# Altium integrated library TI Power Management Step-Down Regulator.IntLib: 531 symbols (part 8 of 32)
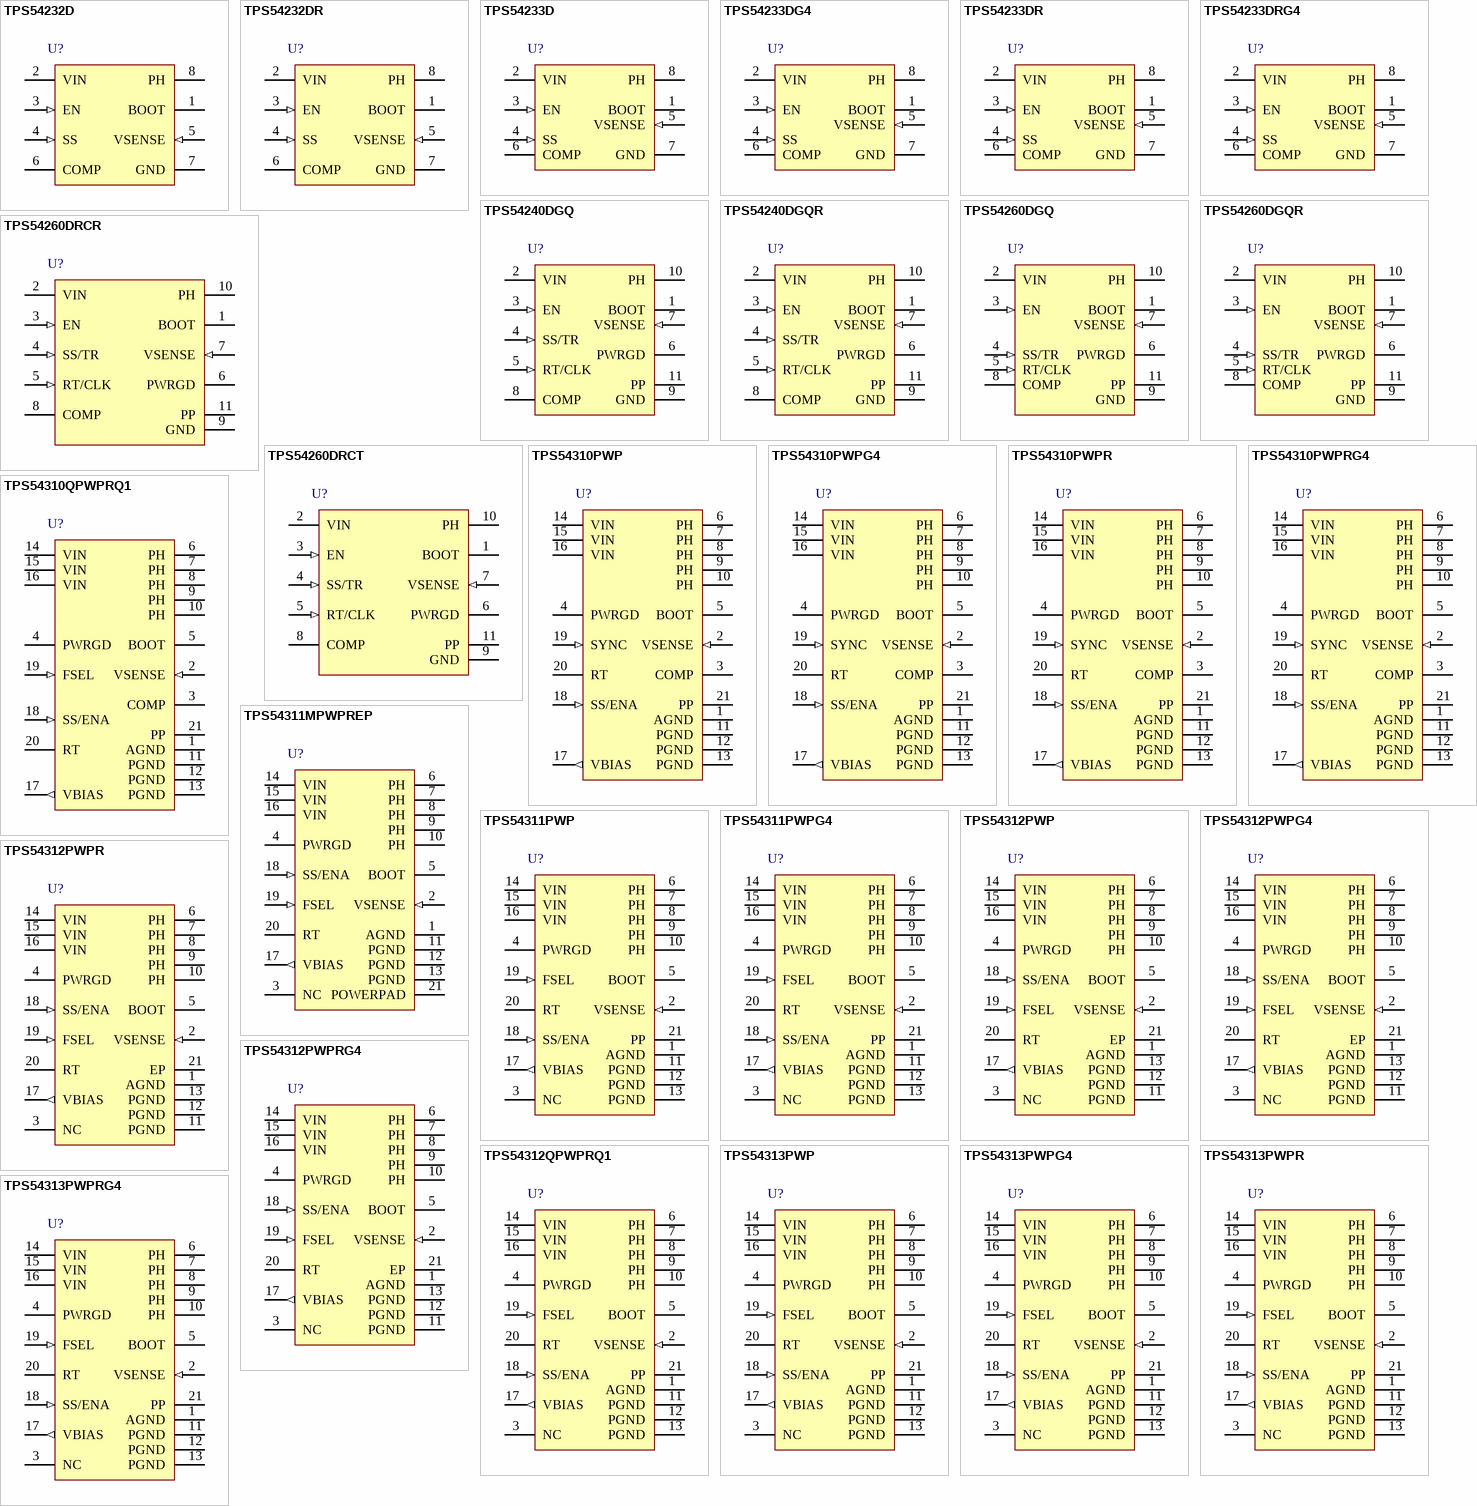
[diagram p25: symbols TPS54232D to TPS54313PWPRG4]

## TPS54312PWPG4
designator U?
Buck Step Down Regulator with 3 to 6 V Input and 1.2 V Output, 20-Pin HTSSOP (PWP), Green (RoHS & no Sb/Br); PartNumber: TPS54312PWPG4; Manufacturer: Texas Instruments; Duty Cycle(Max)(%): 90; Iout(Max)(A): 3; Iq(Typ)(mA): 6.2; Preset Vout(V): 1.2; Rating: Catalog; Regulated Outputs(#): 1; SubFamily: Step-Down Regulator; Switch Current Limit(Typ)(A): 4; Synchronous Rectification: TRUE; Vin(Max)(V): 6; DatasheetVersion: SLVS416B; PackageVersion: revI, May-2011; PackageReference: PWP20-3005X2005TP; PackageDescription: 20-Pin PowerPAD Plastic Small Outline 6.5 x 4.4 mm Body ,0.65 mm Pitch, Exposed Pad; Supplier 1: Digi-Key; Supplier Part Number 1: TPS54312PWPG4-ND; Supplier 2: Newark; Supplier Part Number 2: 54K1668; Supplier 3: Mouser; Supplier Part Number 3: 595-TPS54312PWPG4; Eco-Plan: Green (RoHS & no Sb/Br); Topology: Buck; Vin(Min)(V): 3; Vout(Max)(V): 1.2; Vout(Min)(V): 1.2; Mounting Technology: Surface Mount; Code_JEDEC: MO-153; ComponentLink1Description: Datasheet; ComponentLink1URL: http://www.ti.com/general/docs/lit/getliterature.tsp?genericPartNumber=TPS54312&fileType=pdf; ComponentLink2Description: URL Link1; ComponentLink2URL: Samples URL:http://www.ti.com/product/tps54312#samples
footprint PWP20-3005X2005TP_N (TSOP, 20-Leads, Body 6.5x4.4mm, Pitch 0.65mm, Thermal Pad 3.7x2.4 mm, IPC Medium Density)
footprint PWP20-3005X2005TP_L (TSOP, 20-Leads, Body 6.5x4.4mm, Pitch 0.65mm, Thermal Pad 3.7x2.4 mm, IPC High Density)
footprint PWP20-3005X2005TP_M (TSOP, 20-Leads, Body 6.5x4.4mm, Pitch 0.65mm, Thermal Pad 3.7x2.4 mm, IPC Low Density)
pins: 1 AGND (power) "Analog ground. Return for compensation network/output divider, slow-start capacitor, VBIAS capacitor, RT resistor and FSEL pin. Make PowerPAD connection to AGND.", 2 VSENSE (in) "Error amplifier inverting input. Connect directly to output voltage sense point.", 3 NC "No connection", 4 PWRGD (hiz) "Power good open drain output. Hi-Z when VSENSE >= 90% Vref , otherwise PWRGD is low. Note that output is low when SS/ENA is low or internal shutdown signal active", 5 BOOT "Bootstrap input. 0.022-uF to 0.1-uF low-ESR capacitor connected from BOOT to PH generates floating drive for the high-side FET driver", 6 PH (power) "Phase input/output. Junction of the internal high and low-side power MOSFETs, and output inductor", 7 PH (power) "Phase input/output. Junction of the internal high and low-side power MOSFETs, and output inductor", 8 PH (power) "Phase input/output. Junction of the internal high and low-side power MOSFETs, and output inductor", 9 PH (power) "Phase input/output. Junction of the internal high and low-side power MOSFETs, and output inductor", 10 PH (power) "Phase input/output. Junction of the internal high and low-side power MOSFETs, and output inductor", 11 PGND (power) "Power ground. High current return for the low-side driver and power MOSFET. Connect PGND with large copper areas to the input and output supply returns, and negative terminals of the input and output capacitors.", 12 PGND (power) "Power ground. High current return for the low-side driver and power MOSFET. Connect PGND with large copper areas to the input and output supply returns, and negative terminals of the input and output capacitors.", 13 PGND (power) "Power ground. High current return for the low-side driver and power MOSFET. Connect PGND with large copper areas to the input and output supply returns, and negative terminals of the input and output capacitors.", 14 VIN (power) "Input supply for the power MOSFET switches and internal bias regulator. Bypass VIN pins to PGND pins close to device package with a high quality, low ESR 1-uF to 10-uF ceramic capacitor.", 15 VIN (power) "Input supply for the power MOSFET switches and internal bias regulator. Bypass VIN pins to PGND pins close to device package with a high quality, low ESR 1-uF to 10-uF ceramic capacitor.", 16 VIN (power) "Input supply for the power MOSFET switches and internal bias regulator. Bypass VIN pins to PGND pins close to device package with a high quality, low ESR 1-uF to 10-uF ceramic capacitor.", 17 VBIAS (out) "Internal bias regulator output. Supplies regulated voltage to internal circuitry. Bypass VBIAS pin to AGND pin with a high quality, low ESR 0.1-uF to 1-uF ceramic capacitor.", 18 SS/ENA (in) "Slow-start/enable input/output. Dual function pin which provides logic input to enable/disable device operation and capacitor input to externally set the start-up time.", 19 FSEL (in) "Frequency select input. Provides logic input to select between two internally set switching frequencies.", 20 RT "Frequency setting resistor input. Connect a resistor from RT to AGND to set the switching frequency, f s .", 21 EP (power) "Connect to AGND."

## TPS54312PWPR
designator U?
Buck Step Down Regulator with 3 to 6 V Input and 1.2 V Output, 20-Pin HTSSOP (PWP), Green (RoHS & no Sb/Br); PartNumber: TPS54312PWPR; Manufacturer: Texas Instruments; Duty Cycle(Max)(%): 90; Iout(Max)(A): 3; Iq(Typ)(mA): 6.2; Preset Vout(V): 1.2; Rating: Catalog; Regulated Outputs(#): 1; SubFamily: Step-Down Regulator; Switch Current Limit(Typ)(A): 4; Synchronous Rectification: TRUE; Vin(Max)(V): 6; DatasheetVersion: SLVS416B; PackageVersion: revI, May-2011; PackageReference: PWP20-3005X2005TP; PackageDescription: 20-Pin PowerPAD Plastic Small Outline 6.5 x 4.4 mm Body ,0.65 mm Pitch, Exposed Pad; Supplier 1: Digi-Key; Supplier Part Number 1: TPS54312PWPR-ND; Supplier 2: Newark; Supplier Part Number 2: 77C0494; Supplier 3: Mouser; Supplier Part Number 3: 595-TPS54312PWPR; Eco-Plan: Green (RoHS & no Sb/Br); Topology: Buck; Vin(Min)(V): 3; Vout(Max)(V): 1.2; Vout(Min)(V): 1.2; Mounting Technology: Surface Mount; Code_JEDEC: MO-153; ComponentLink1Description: Datasheet; ComponentLink1URL: http://www.ti.com/general/docs/lit/getliterature.tsp?genericPartNumber=TPS54312&fileType=pdf; ComponentLink2Description: URL Link1; ComponentLink2URL: Samples URL:http://www.ti.com/product/tps54312#samples
footprint PWP20-3005X2005TP_N (TSOP, 20-Leads, Body 6.5x4.4mm, Pitch 0.65mm, Thermal Pad 3.7x2.4 mm, IPC Medium Density)
footprint PWP20-3005X2005TP_L (TSOP, 20-Leads, Body 6.5x4.4mm, Pitch 0.65mm, Thermal Pad 3.7x2.4 mm, IPC High Density)
footprint PWP20-3005X2005TP_M (TSOP, 20-Leads, Body 6.5x4.4mm, Pitch 0.65mm, Thermal Pad 3.7x2.4 mm, IPC Low Density)
pins: 1 AGND (power) "Analog ground. Return for compensation network/output divider, slow-start capacitor, VBIAS capacitor, RT resistor and FSEL pin. Make PowerPAD connection to AGND.", 2 VSENSE (in) "Error amplifier inverting input. Connect directly to output voltage sense point.", 3 NC "No connection", 4 PWRGD (hiz) "Power good open drain output. Hi-Z when VSENSE >= 90% Vref , otherwise PWRGD is low. Note that output is low when SS/ENA is low or internal shutdown signal active", 5 BOOT "Bootstrap input. 0.022-uF to 0.1-uF low-ESR capacitor connected from BOOT to PH generates floating drive for the high-side FET driver", 6 PH (power) "Phase input/output. Junction of the internal high and low-side power MOSFETs, and output inductor", 7 PH (power) "Phase input/output. Junction of the internal high and low-side power MOSFETs, and output inductor", 8 PH (power) "Phase input/output. Junction of the internal high and low-side power MOSFETs, and output inductor", 9 PH (power) "Phase input/output. Junction of the internal high and low-side power MOSFETs, and output inductor", 10 PH (power) "Phase input/output. Junction of the internal high and low-side power MOSFETs, and output inductor", 11 PGND (power) "Power ground. High current return for the low-side driver and power MOSFET. Connect PGND with large copper areas to the input and output supply returns, and negative terminals of the input and output capacitors.", 12 PGND (power) "Power ground. High current return for the low-side driver and power MOSFET. Connect PGND with large copper areas to the input and output supply returns, and negative terminals of the input and output capacitors.", 13 PGND (power) "Power ground. High current return for the low-side driver and power MOSFET. Connect PGND with large copper areas to the input and output supply returns, and negative terminals of the input and output capacitors.", 14 VIN (power) "Input supply for the power MOSFET switches and internal bias regulator. Bypass VIN pins to PGND pins close to device package with a high quality, low ESR 1-uF to 10-uF ceramic capacitor.", 15 VIN (power) "Input supply for the power MOSFET switches and internal bias regulator. Bypass VIN pins to PGND pins close to device package with a high quality, low ESR 1-uF to 10-uF ceramic capacitor.", 16 VIN (power) "Input supply for the power MOSFET switches and internal bias regulator. Bypass VIN pins to PGND pins close to device package with a high quality, low ESR 1-uF to 10-uF ceramic capacitor.", 17 VBIAS (out) "Internal bias regulator output. Supplies regulated voltage to internal circuitry. Bypass VBIAS pin to AGND pin with a high quality, low ESR 0.1-uF to 1-uF ceramic capacitor.", 18 SS/ENA (in) "Slow-start/enable input/output. Dual function pin which provides logic input to enable/disable device operation and capacitor input to externally set the start-up time.", 19 FSEL (in) "Frequency select input. Provides logic input to select between two internally set switching frequencies.", 20 RT "Frequency setting resistor input. Connect a resistor from RT to AGND to set the switching frequency, f s .", 21 EP (power) "Connect to AGND."

## TPS54312PWPRG4
designator U?
Buck Step Down Regulator with 3 to 6 V Input and 1.2 V Output, 20-Pin HTSSOP (PWP), Green (RoHS & no Sb/Br); PartNumber: TPS54312PWPRG4; Manufacturer: Texas Instruments; Duty Cycle(Max)(%): 90; Iout(Max)(A): 3; Iq(Typ)(mA): 6.2; Preset Vout(V): 1.2; Rating: Catalog; Regulated Outputs(#): 1; SubFamily: Step-Down Regulator; Switch Current Limit(Typ)(A): 4; Synchronous Rectification: TRUE; Vin(Max)(V): 6; DatasheetVersion: SLVS416B; PackageVersion: revI, May-2011; PackageReference: PWP20-3005X2005TP; PackageDescription: 20-Pin PowerPAD Plastic Small Outline 6.5 x 4.4 mm Body ,0.65 mm Pitch, Exposed Pad; Supplier 1: Digi-Key; Supplier Part Number 1: TPS54312PWPRG4-ND; Supplier 2: Newark; Supplier Part Number 2: 33K7623; Supplier 3: Mouser; Supplier Part Number 3: 595-TPS54312PWPRG4; Eco-Plan: Green (RoHS & no Sb/Br); Topology: Buck; Vin(Min)(V): 3; Vout(Max)(V): 1.2; Vout(Min)(V): 1.2; Mounting Technology: Surface Mount; Code_JEDEC: MO-153; ComponentLink1Description: Datasheet; ComponentLink1URL: http://www.ti.com/general/docs/lit/getliterature.tsp?genericPartNumber=TPS54312&fileType=pdf; ComponentLink2Description: URL Link1; ComponentLink2URL: Samples URL:http://www.ti.com/product/tps54611#samples
footprint PWP20-3005X2005TP_N (TSOP, 20-Leads, Body 6.5x4.4mm, Pitch 0.65mm, Thermal Pad 3.7x2.4 mm, IPC Medium Density)
footprint PWP20-3005X2005TP_L (TSOP, 20-Leads, Body 6.5x4.4mm, Pitch 0.65mm, Thermal Pad 3.7x2.4 mm, IPC High Density)
footprint PWP20-3005X2005TP_M (TSOP, 20-Leads, Body 6.5x4.4mm, Pitch 0.65mm, Thermal Pad 3.7x2.4 mm, IPC Low Density)
pins: 1 AGND (power) "Analog ground. Return for compensation network/output divider, slow-start capacitor, VBIAS capacitor, RT resistor and FSEL pin. Make PowerPAD connection to AGND.", 2 VSENSE (in) "Error amplifier inverting input. Connect directly to output voltage sense point.", 3 NC "No connection", 4 PWRGD (hiz) "Power good open drain output. Hi-Z when VSENSE >= 90% Vref , otherwise PWRGD is low. Note that output is low when SS/ENA is low or internal shutdown signal active", 5 BOOT "Bootstrap input. 0.022-uF to 0.1-uF low-ESR capacitor connected from BOOT to PH generates floating drive for the high-side FET driver", 6 PH (power) "Phase input/output. Junction of the internal high and low-side power MOSFETs, and output inductor", 7 PH (power) "Phase input/output. Junction of the internal high and low-side power MOSFETs, and output inductor", 8 PH (power) "Phase input/output. Junction of the internal high and low-side power MOSFETs, and output inductor", 9 PH (power) "Phase input/output. Junction of the internal high and low-side power MOSFETs, and output inductor", 10 PH (power) "Phase input/output. Junction of the internal high and low-side power MOSFETs, and output inductor", 11 PGND (power) "Power ground. High current return for the low-side driver and power MOSFET. Connect PGND with large copper areas to the input and output supply returns, and negative terminals of the input and output capacitors.", 12 PGND (power) "Power ground. High current return for the low-side driver and power MOSFET. Connect PGND with large copper areas to the input and output supply returns, and negative terminals of the input and output capacitors.", 13 PGND (power) "Power ground. High current return for the low-side driver and power MOSFET. Connect PGND with large copper areas to the input and output supply returns, and negative terminals of the input and output capacitors.", 14 VIN (power) "Input supply for the power MOSFET switches and internal bias regulator. Bypass VIN pins to PGND pins close to device package with a high quality, low ESR 1-uF to 10-uF ceramic capacitor.", 15 VIN (power) "Input supply for the power MOSFET switches and internal bias regulator. Bypass VIN pins to PGND pins close to device package with a high quality, low ESR 1-uF to 10-uF ceramic capacitor.", 16 VIN (power) "Input supply for the power MOSFET switches and internal bias regulator. Bypass VIN pins to PGND pins close to device package with a high quality, low ESR 1-uF to 10-uF ceramic capacitor.", 17 VBIAS (out) "Internal bias regulator output. Supplies regulated voltage to internal circuitry. Bypass VBIAS pin to AGND pin with a high quality, low ESR 0.1-uF to 1-uF ceramic capacitor.", 18 SS/ENA (in) "Slow-start/enable input/output. Dual function pin which provides logic input to enable/disable device operation and capacitor input to externally set the start-up time.", 19 FSEL (in) "Frequency select input. Provides logic input to select between two internally set switching frequencies.", 20 RT "Frequency setting resistor input. Connect a resistor from RT to AGND to set the switching frequency, f s .", 21 EP (power) "Connect to AGND."

## TPS54312QPWPRQ1
designator U?
Buck Step Down Regulator with 3 to 6 V Input and 1.2 V Output, -40 to 125 degC, 20-Pin HTSSOP (PWP), Green (RoHS & no Sb/Br); PartNumber: TPS54312QPWPRQ1; Manufacturer: Texas Instruments; Duty Cycle(Max)(%): 90; Iout(Max)(A): 3; Iq(Typ)(mA): 6.2; Preset Vout(V): 1.2; Rating: Automotive; Regulated Outputs(#): 1; SubFamily: Step-Down Regulator; Switch Current Limit(Typ)(A): 4; Synchronous Rectification: TRUE; Vin(Max)(V): 6; DatasheetVersion: SGLS242G; PackageVersion: revI, May-2011; PackageReference: PWP20-3005X2005TP; PackageDescription: 20-Pin PowerPAD Plastic Small Outline 6.5 x 4.4 mm Body ,0.65 mm Pitch, Exposed Pad; Supplier 1: Digi-Key; Supplier Part Number 1: TPS54312QPWPRQ1-ND; Supplier 2: Newark; Supplier Part Number 2: 73J8380; Supplier 3: Mouser; Supplier Part Number 3: 595-TPS54312QPWPRQ1; Eco-Plan: Green (RoHS & no Sb/Br); Topology: Buck; Vin(Min)(V): 3; Vout(Max)(V): 1.2; Vout(Min)(V): 1.2; Mounting Technology: Surface Mount; Code_JEDEC: MO-153; ComponentLink1Description: Datasheet; ComponentLink1URL: http://www.ti.com/general/docs/lit/getliterature.tsp?genericPartNumber=TPS54312-Q1&fileType=pdf; ComponentLink2Description: URL Link1; ComponentLink2URL: Samples URL:http://www.ti.com/product/tps54611#samples
footprint PWP20-3005X2005TP_N (TSOP, 20-Leads, Body 6.5x4.4mm, Pitch 0.65mm, Thermal Pad 3.7x2.4 mm, IPC Medium Density)
footprint PWP20-3005X2005TP_L (TSOP, 20-Leads, Body 6.5x4.4mm, Pitch 0.65mm, Thermal Pad 3.7x2.4 mm, IPC High Density)
footprint PWP20-3005X2005TP_M (TSOP, 20-Leads, Body 6.5x4.4mm, Pitch 0.65mm, Thermal Pad 3.7x2.4 mm, IPC Low Density)
pins: 1 AGND (power) "Analog ground. Return for compensation network/output divider, slow-start capacitor, VBIAS capacitor, RT resistor and FSEL pin. Make PowerPAD connection to AGND.", 2 VSENSE (in) "Error amplifier inverting input. Connect directly to output voltage sense point.", 3 NC "No connection", 4 PWRGD (hiz) "Power good open drain output. Hi-Z when VSENSE >= 90% Vref , otherwise PWRGD is low. Note that output is low when SS/ENA is low or internal shutdown signal active", 5 BOOT "Bootstrap input. 0.022-uF to 0.1-uF low-ESR capacitor connected from BOOT to PH generates floating drive for the high-side FET driver", 6 PH (power) "Phase input/output. Junction of the internal high and low-side power MOSFETs, and output inductor", 7 PH (power) "Phase input/output. Junction of the internal high and low-side power MOSFETs, and output inductor", 8 PH (power) "Phase input/output. Junction of the internal high and low-side power MOSFETs, and output inductor", 9 PH (power) "Phase input/output. Junction of the internal high and low-side power MOSFETs, and output inductor", 10 PH (power) "Phase input/output. Junction of the internal high and low-side power MOSFETs, and output inductor", 11 PGND (power) "Power ground. High current return for the low-side driver and power MOSFET. Connect PGND with large copper areas to the input and output supply returns, and negative terminals of the input and output capacitors.", 12 PGND (power) "Power ground. High current return for the low-side driver and power MOSFET. Connect PGND with large copper areas to the input and output supply returns, and negative terminals of the input and output capacitors.", 13 PGND (power) "Power ground. High current return for the low-side driver and power MOSFET. Connect PGND with large copper areas to the input and output supply returns, and negative terminals of the input and output capacitors.", 14 VIN (power) "Input supply for the power MOSFET switches and internal bias regulator. Bypass VIN pins to PGND pins close to device package with a high quality, low ESR 1-uF to 10-uF ceramic capacitor.", 15 VIN (power) "Input supply for the power MOSFET switches and internal bias regulator. Bypass VIN pins to PGND pins close to device package with a high quality, low ESR 1-uF to 10-uF ceramic capacitor.", 16 VIN (power) "Input supply for the power MOSFET switches and internal bias regulator. Bypass VIN pins to PGND pins close to device package with a high quality, low ESR 1-uF to 10-uF ceramic capacitor.", 17 VBIAS (out) "Internal bias regulator output. Supplies regulated voltage to internal circuitry. Bypass VBIAS pin to AGND pin with a high quality, low ESR 0.1-uF to 1-uF ceramic capacitor.", 18 SS/ENA (in) "Slow-start/enable input/output. Dual function pin which provides logic input to enable/disable device operation and capacitor input to externally set the start-up time.", 19 FSEL (in) "Frequency select input. Provides logic input to select between two internally set switching frequencies.", 20 RT "Frequency setting resistor input. Connect a resistor from RT to AGND to set the switching frequency, f s .", 21 PP (power) "Connect it to AGND."

## TPS54313PWP
designator U?
Buck Step Down Regulator with 3 to 6 V Input and 1.5 V Output, -40 to 125 degC, 20-Pin HTSSOP (PWP), Green (RoHS & no Sb/Br); PartNumber: TPS54313PWP; Manufacturer: Texas Instruments; Duty Cycle(Max)(%): 90; Iout(Max)(A): 3; Iq(Typ)(mA): 6.2; Preset Vout(V): 1.5; Rating: Catalog; Regulated Outputs(#): 1; SubFamily: Step-Down Regulator; Switch Current Limit(Typ)(A): 4; Synchronous Rectification: TRUE; Vin(Max)(V): 6; DatasheetVersion: SLVS416B; PackageVersion: revI, May-2011; PackageReference: PWP20-3005X2005TP; PackageDescription: 20-Pin PowerPAD Plastic Small Outline 6.5 x 4.4 mm Body ,0.65 mm Pitch, Exposed Pad; Supplier 1: Digi-Key; Supplier Part Number 1: 296-12681-5-ND; Supplier 2: Newark; Supplier Part Number 2: 77C0495; Supplier 3: Mouser; Supplier Part Number 3: 595-TPS54313PWP; Eco-Plan: Green (RoHS & no Sb/Br); Topology: Buck; Vin(Min)(V): 3; Vout(Max)(V): 1.5; Vout(Min)(V): 1.5; Mounting Technology: Surface Mount; Code_JEDEC: MO-153; ComponentLink1Description: Datasheet; ComponentLink1URL: http://www.ti.com/general/docs/lit/getliterature.tsp?genericPartNumber=TPS54313&fileType=pdf; ComponentLink2Description: URL Link1; ComponentLink2URL: Samples URL:http://www.ti.com/product/tps54313#samples
footprint PWP20-3005X2005TP_N (TSOP, 20-Leads, Body 6.5x4.4mm, Pitch 0.65mm, Thermal Pad 3.7x2.4 mm, IPC Medium Density)
footprint PWP20-3005X2005TP_L (TSOP, 20-Leads, Body 6.5x4.4mm, Pitch 0.65mm, Thermal Pad 3.7x2.4 mm, IPC High Density)
footprint PWP20-3005X2005TP_M (TSOP, 20-Leads, Body 6.5x4.4mm, Pitch 0.65mm, Thermal Pad 3.7x2.4 mm, IPC Low Density)
pins: 1 AGND (power) "Analog ground. Return for compensation network/output divider, slow-start capacitor, VBIAS capacitor, RT resistor and FSEL pin. Make PowerPAD connection to AGND.", 2 VSENSE (in) "Error amplifier inverting input. Connect directly to output voltage sense point.", 3 NC "No connection", 4 PWRGD (hiz) "Power good open drain output. Hi-Z when VSENSE >= 90% Vref , otherwise PWRGD is low. Note that output is low when SS/ENA is low or internal shutdown signal active", 5 BOOT "Bootstrap input. 0.022-uF to 0.1-uF low-ESR capacitor connected from BOOT to PH generates floating drive for the high-side FET driver", 6 PH (power) "Phase input/output. Junction of the internal high and low-side power MOSFETs, and output inductor", 7 PH (power) "Phase input/output. Junction of the internal high and low-side power MOSFETs, and output inductor", 8 PH (power) "Phase input/output. Junction of the internal high and low-side power MOSFETs, and output inductor", 9 PH (power) "Phase input/output. Junction of the internal high and low-side power MOSFETs, and output inductor", 10 PH (power) "Phase input/output. Junction of the internal high and low-side power MOSFETs, and output inductor", 11 PGND (power) "Power ground. High current return for the low-side driver and power MOSFET. Connect PGND with large copper areas to the input and output supply returns, and negative terminals of the input and output capacitors.", 12 PGND (power) "Power ground. High current return for the low-side driver and power MOSFET. Connect PGND with large copper areas to the input and output supply returns, and negative terminals of the input and output capacitors.", 13 PGND (power) "Power ground. High current return for the low-side driver and power MOSFET. Connect PGND with large copper areas to the input and output supply returns, and negative terminals of the input and output capacitors.", 14 VIN (power) "Input supply for the power MOSFET switches and internal bias regulator. Bypass VIN pins to PGND pins close to device package with a high quality, low ESR 1-uF to 10-uF ceramic capacitor.", 15 VIN (power) "Input supply for the power MOSFET switches and internal bias regulator. Bypass VIN pins to PGND pins close to device package with a high quality, low ESR 1-uF to 10-uF ceramic capacitor.", 16 VIN (power) "Input supply for the power MOSFET switches and internal bias regulator. Bypass VIN pins to PGND pins close to device package with a high quality, low ESR 1-uF to 10-uF ceramic capacitor.", 17 VBIAS (out) "Internal bias regulator output. Supplies regulated voltage to internal circuitry. Bypass VBIAS pin to AGND pin with a high quality, low ESR 0.1-uF to 1-uF ceramic capacitor.", 18 SS/ENA (in) "Slow-start/enable input/output. Dual function pin which provides logic input to enable/disable device operation and capacitor input to externally set the start-up time.", 19 FSEL (in) "Frequency select input. Provides logic input to select between two internally set switching frequencies.", 20 RT "Frequency setting resistor input. Connect a resistor from RT to AGND to set the switching frequency, f s .", 21 PP (power) "Connect to AGND."

## TPS54313PWPG4
designator U?
Buck Step Down Regulator with 3 to 6 V Input and 1.5 V Output, -40 to 125 degC, 20-Pin HTSSOP (PWP), Green (RoHS & no Sb/Br); PartNumber: TPS54313PWPG4; Manufacturer: Texas Instruments; Duty Cycle(Max)(%): 90; Iout(Max)(A): 3; Iq(Typ)(mA): 6.2; Preset Vout(V): 1.5; Rating: Catalog; Regulated Outputs(#): 1; SubFamily: Step-Down Regulator; Switch Current Limit(Typ)(A): 4; Synchronous Rectification: TRUE; Vin(Max)(V): 6; DatasheetVersion: SLVS416B; PackageVersion: revI, May-2011; PackageReference: PWP20-3005X2005TP; PackageDescription: 20-Pin PowerPAD Plastic Small Outline 6.5 x 4.4 mm Body ,0.65 mm Pitch, Exposed Pad; Supplier 1: Digi-Key; Supplier Part Number 1: TPS54313PWPG4-ND; Supplier 2: Newark; Supplier Part Number 2: 54K1669; Supplier 3: Mouser; Supplier Part Number 3: 595-TPS54313PWPG4; Eco-Plan: Green (RoHS & no Sb/Br); Topology: Buck; Vin(Min)(V): 3; Vout(Max)(V): 1.5; Vout(Min)(V): 1.5; Mounting Technology: Surface Mount; Code_JEDEC: MO-153; ComponentLink1Description: Datasheet; ComponentLink1URL: http://www.ti.com/general/docs/lit/getliterature.tsp?genericPartNumber=TPS54313&fileType=pdf; ComponentLink2Description: URL Link1; ComponentLink2URL: Samples URL:http://www.ti.com/product/tps54313#samples
footprint PWP20-3005X2005TP_N (TSOP, 20-Leads, Body 6.5x4.4mm, Pitch 0.65mm, Thermal Pad 3.7x2.4 mm, IPC Medium Density)
footprint PWP20-3005X2005TP_L (TSOP, 20-Leads, Body 6.5x4.4mm, Pitch 0.65mm, Thermal Pad 3.7x2.4 mm, IPC High Density)
footprint PWP20-3005X2005TP_M (TSOP, 20-Leads, Body 6.5x4.4mm, Pitch 0.65mm, Thermal Pad 3.7x2.4 mm, IPC Low Density)
pins: 1 AGND (power) "Analog ground. Return for compensation network/output divider, slow-start capacitor, VBIAS capacitor, RT resistor and FSEL pin. Make PowerPAD connection to AGND.", 2 VSENSE (in) "Error amplifier inverting input. Connect directly to output voltage sense point.", 3 NC "No connection", 4 PWRGD (hiz) "Power good open drain output. Hi-Z when VSENSE >= 90% Vref , otherwise PWRGD is low. Note that output is low when SS/ENA is low or internal shutdown signal active", 5 BOOT "Bootstrap input. 0.022-uF to 0.1-uF low-ESR capacitor connected from BOOT to PH generates floating drive for the high-side FET driver", 6 PH (power) "Phase input/output. Junction of the internal high and low-side power MOSFETs, and output inductor", 7 PH (power) "Phase input/output. Junction of the internal high and low-side power MOSFETs, and output inductor", 8 PH (power) "Phase input/output. Junction of the internal high and low-side power MOSFETs, and output inductor", 9 PH (power) "Phase input/output. Junction of the internal high and low-side power MOSFETs, and output inductor", 10 PH (power) "Phase input/output. Junction of the internal high and low-side power MOSFETs, and output inductor", 11 PGND (power) "Power ground. High current return for the low-side driver and power MOSFET. Connect PGND with large copper areas to the input and output supply returns, and negative terminals of the input and output capacitors.", 12 PGND (power) "Power ground. High current return for the low-side driver and power MOSFET. Connect PGND with large copper areas to the input and output supply returns, and negative terminals of the input and output capacitors.", 13 PGND (power) "Power ground. High current return for the low-side driver and power MOSFET. Connect PGND with large copper areas to the input and output supply returns, and negative terminals of the input and output capacitors.", 14 VIN (power) "Input supply for the power MOSFET switches and internal bias regulator. Bypass VIN pins to PGND pins close to device package with a high quality, low ESR 1-uF to 10-uF ceramic capacitor.", 15 VIN (power) "Input supply for the power MOSFET switches and internal bias regulator. Bypass VIN pins to PGND pins close to device package with a high quality, low ESR 1-uF to 10-uF ceramic capacitor.", 16 VIN (power) "Input supply for the power MOSFET switches and internal bias regulator. Bypass VIN pins to PGND pins close to device package with a high quality, low ESR 1-uF to 10-uF ceramic capacitor.", 17 VBIAS (out) "Internal bias regulator output. Supplies regulated voltage to internal circuitry. Bypass VBIAS pin to AGND pin with a high quality, low ESR 0.1-uF to 1-uF ceramic capacitor.", 18 SS/ENA (in) "Slow-start/enable input/output. Dual function pin which provides logic input to enable/disable device operation and capacitor input to externally set the start-up time.", 19 FSEL (in) "Frequency select input. Provides logic input to select between two internally set switching frequencies.", 20 RT "Frequency setting resistor input. Connect a resistor from RT to AGND to set the switching frequency, f s .", 21 PP (power) "Connect to AGND."

## TPS54313PWPR
designator U?
Buck Step Down Regulator with 3 to 6 V Input and 1.5 V Output, -40 to 125 degC, 20-Pin HTSSOP (PWP), Green (RoHS & no Sb/Br); PartNumber: TPS54313PWPR; Manufacturer: Texas Instruments; Duty Cycle(Max)(%): 90; Iout(Max)(A): 3; Iq(Typ)(mA): 6.2; Preset Vout(V): 1.5; Rating: Catalog; Regulated Outputs(#): 1; SubFamily: Step-Down Regulator; Switch Current Limit(Typ)(A): 4; Synchronous Rectification: TRUE; Vin(Max)(V): 6; DatasheetVersion: SLVS416B; PackageVersion: revI, May-2011; PackageReference: PWP20-3005X2005TP; PackageDescription: 20-Pin PowerPAD Plastic Small Outline 6.5 x 4.4 mm Body ,0.65 mm Pitch, Exposed Pad; Supplier 1: Digi-Key; Supplier Part Number 1: TPS54313PWPR-ND; Supplier 2: Newark; Supplier Part Number 2: 67H1778; Supplier 3: Mouser; Supplier Part Number 3: 595-TPS54313PWPR; Eco-Plan: Green (RoHS & no Sb/Br); Topology: Buck; Vin(Min)(V): 3; Vout(Max)(V): 1.5; Vout(Min)(V): 1.5; Mounting Technology: Surface Mount; Code_JEDEC: MO-153; ComponentLink1Description: Datasheet; ComponentLink1URL: http://www.ti.com/general/docs/lit/getliterature.tsp?genericPartNumber=TPS54313&fileType=pdf; ComponentLink2Description: URL Link1; ComponentLink2URL: Samples URL:http://www.ti.com/product/tps54313#samples
footprint PWP20-3005X2005TP_N (TSOP, 20-Leads, Body 6.5x4.4mm, Pitch 0.65mm, Thermal Pad 3.7x2.4 mm, IPC Medium Density)
footprint PWP20-3005X2005TP_L (TSOP, 20-Leads, Body 6.5x4.4mm, Pitch 0.65mm, Thermal Pad 3.7x2.4 mm, IPC High Density)
footprint PWP20-3005X2005TP_M (TSOP, 20-Leads, Body 6.5x4.4mm, Pitch 0.65mm, Thermal Pad 3.7x2.4 mm, IPC Low Density)
pins: 1 AGND (power) "Analog ground. Return for compensation network/output divider, slow-start capacitor, VBIAS capacitor, RT resistor and FSEL pin. Make PowerPAD connection to AGND.", 2 VSENSE (in) "Error amplifier inverting input. Connect directly to output voltage sense point.", 3 NC "No connection", 4 PWRGD (hiz) "Power good open drain output. Hi-Z when VSENSE >= 90% Vref , otherwise PWRGD is low. Note that output is low when SS/ENA is low or internal shutdown signal active", 5 BOOT "Bootstrap input. 0.022-uF to 0.1-uF low-ESR capacitor connected from BOOT to PH generates floating drive for the high-side FET driver", 6 PH (power) "Phase input/output. Junction of the internal high and low-side power MOSFETs, and output inductor", 7 PH (power) "Phase input/output. Junction of the internal high and low-side power MOSFETs, and output inductor", 8 PH (power) "Phase input/output. Junction of the internal high and low-side power MOSFETs, and output inductor", 9 PH (power) "Phase input/output. Junction of the internal high and low-side power MOSFETs, and output inductor", 10 PH (power) "Phase input/output. Junction of the internal high and low-side power MOSFETs, and output inductor", 11 PGND (power) "Power ground. High current return for the low-side driver and power MOSFET. Connect PGND with large copper areas to the input and output supply returns, and negative terminals of the input and output capacitors.", 12 PGND (power) "Power ground. High current return for the low-side driver and power MOSFET. Connect PGND with large copper areas to the input and output supply returns, and negative terminals of the input and output capacitors.", 13 PGND (power) "Power ground. High current return for the low-side driver and power MOSFET. Connect PGND with large copper areas to the input and output supply returns, and negative terminals of the input and output capacitors.", 14 VIN (power) "Input supply for the power MOSFET switches and internal bias regulator. Bypass VIN pins to PGND pins close to device package with a high quality, low ESR 1-uF to 10-uF ceramic capacitor.", 15 VIN (power) "Input supply for the power MOSFET switches and internal bias regulator. Bypass VIN pins to PGND pins close to device package with a high quality, low ESR 1-uF to 10-uF ceramic capacitor.", 16 VIN (power) "Input supply for the power MOSFET switches and internal bias regulator. Bypass VIN pins to PGND pins close to device package with a high quality, low ESR 1-uF to 10-uF ceramic capacitor.", 17 VBIAS (out) "Internal bias regulator output. Supplies regulated voltage to internal circuitry. Bypass VBIAS pin to AGND pin with a high quality, low ESR 0.1-uF to 1-uF ceramic capacitor.", 18 SS/ENA (in) "Slow-start/enable input/output. Dual function pin which provides logic input to enable/disable device operation and capacitor input to externally set the start-up time.", 19 FSEL (in) "Frequency select input. Provides logic input to select between two internally set switching frequencies.", 20 RT "Frequency setting resistor input. Connect a resistor from RT to AGND to set the switching frequency, f s .", 21 PP (power) "Connect to AGND."

## TPS54313PWPRG4
designator U?
Buck Step Down Regulator with 3 to 6 V Input and 1.5 V Output, -40 to 125 degC, 20-Pin HTSSOP (PWP), Green (RoHS & no Sb/Br); PartNumber: TPS54313PWPRG4; Manufacturer: Texas Instruments; Duty Cycle(Max)(%): 90; Iout(Max)(A): 3; Iq(Typ)(mA): 6.2; Preset Vout(V): 1.5; Rating: Catalog; Regulated Outputs(#): 1; SubFamily: Step-Down Regulator; Switch Current Limit(Typ)(A): 4; Synchronous Rectification: TRUE; Vin(Max)(V): 6; DatasheetVersion: SLVS416B; PackageVersion: revI, May-2011; PackageReference: PWP20-3005X2005TP; PackageDescription: 20-Pin PowerPAD Plastic Small Outline 6.5 x 4.4 mm Body ,0.65 mm Pitch, Exposed Pad; Supplier 1: Digi-Key; Supplier Part Number 1: TPS54313PWPRG4-ND; Supplier 2: Newark; Supplier Part Number 2: 24K5985; Supplier 3: Mouser; Supplier Part Number 3: 595-TPS54313PWPRG4; Eco-Plan: Green (RoHS & no Sb/Br); Topology: Buck; Vin(Min)(V): 3; Vout(Max)(V): 1.5; Vout(Min)(V): 1.5; Mounting Technology: Surface Mount; Code_JEDEC: MO-153; ComponentLink1Description: Datasheet; ComponentLink1URL: http://www.ti.com/general/docs/lit/getliterature.tsp?genericPartNumber=TPS54313&fileType=pdf; ComponentLink2Description: URL Link1; ComponentLink2URL: Samples URL:http://www.ti.com/product/tps54611#samples
footprint PWP20-3005X2005TP_N (TSOP, 20-Leads, Body 6.5x4.4mm, Pitch 0.65mm, Thermal Pad 3.7x2.4 mm, IPC Medium Density)
footprint PWP20-3005X2005TP_L (TSOP, 20-Leads, Body 6.5x4.4mm, Pitch 0.65mm, Thermal Pad 3.7x2.4 mm, IPC High Density)
footprint PWP20-3005X2005TP_M (TSOP, 20-Leads, Body 6.5x4.4mm, Pitch 0.65mm, Thermal Pad 3.7x2.4 mm, IPC Low Density)
pins: 1 AGND (power) "Analog ground. Return for compensation network/output divider, slow-start capacitor, VBIAS capacitor, RT resistor and FSEL pin. Make PowerPAD connection to AGND.", 2 VSENSE (in) "Error amplifier inverting input. Connect directly to output voltage sense point.", 3 NC "No connection", 4 PWRGD (hiz) "Power good open drain output. Hi-Z when VSENSE >= 90% Vref , otherwise PWRGD is low. Note that output is low when SS/ENA is low or internal shutdown signal active", 5 BOOT "Bootstrap input. 0.022-uF to 0.1-uF low-ESR capacitor connected from BOOT to PH generates floating drive for the high-side FET driver", 6 PH (power) "Phase input/output. Junction of the internal high and low-side power MOSFETs, and output inductor", 7 PH (power) "Phase input/output. Junction of the internal high and low-side power MOSFETs, and output inductor", 8 PH (power) "Phase input/output. Junction of the internal high and low-side power MOSFETs, and output inductor", 9 PH (power) "Phase input/output. Junction of the internal high and low-side power MOSFETs, and output inductor", 10 PH (power) "Phase input/output. Junction of the internal high and low-side power MOSFETs, and output inductor", 11 PGND (power) "Power ground. High current return for the low-side driver and power MOSFET. Connect PGND with large copper areas to the input and output supply returns, and negative terminals of the input and output capacitors.", 12 PGND (power) "Power ground. High current return for the low-side driver and power MOSFET. Connect PGND with large copper areas to the input and output supply returns, and negative terminals of the input and output capacitors.", 13 PGND (power) "Power ground. High current return for the low-side driver and power MOSFET. Connect PGND with large copper areas to the input and output supply returns, and negative terminals of the input and output capacitors.", 14 VIN (power) "Input supply for the power MOSFET switches and internal bias regulator. Bypass VIN pins to PGND pins close to device package with a high quality, low ESR 1-uF to 10-uF ceramic capacitor.", 15 VIN (power) "Input supply for the power MOSFET switches and internal bias regulator. Bypass VIN pins to PGND pins close to device package with a high quality, low ESR 1-uF to 10-uF ceramic capacitor.", 16 VIN (power) "Input supply for the power MOSFET switches and internal bias regulator. Bypass VIN pins to PGND pins close to device package with a high quality, low ESR 1-uF to 10-uF ceramic capacitor.", 17 VBIAS (out) "Internal bias regulator output. Supplies regulated voltage to internal circuitry. Bypass VBIAS pin to AGND pin with a high quality, low ESR 0.1-uF to 1-uF ceramic capacitor.", 18 SS/ENA (in) "Slow-start/enable input/output. Dual function pin which provides logic input to enable/disable device operation and capacitor input to externally set the start-up time.", 19 FSEL (in) "Frequency select input. Provides logic input to select between two internally set switching frequencies.", 20 RT "Frequency setting resistor input. Connect a resistor from RT to AGND to set the switching frequency, f s .", 21 PP (power) "Connect to AGND."

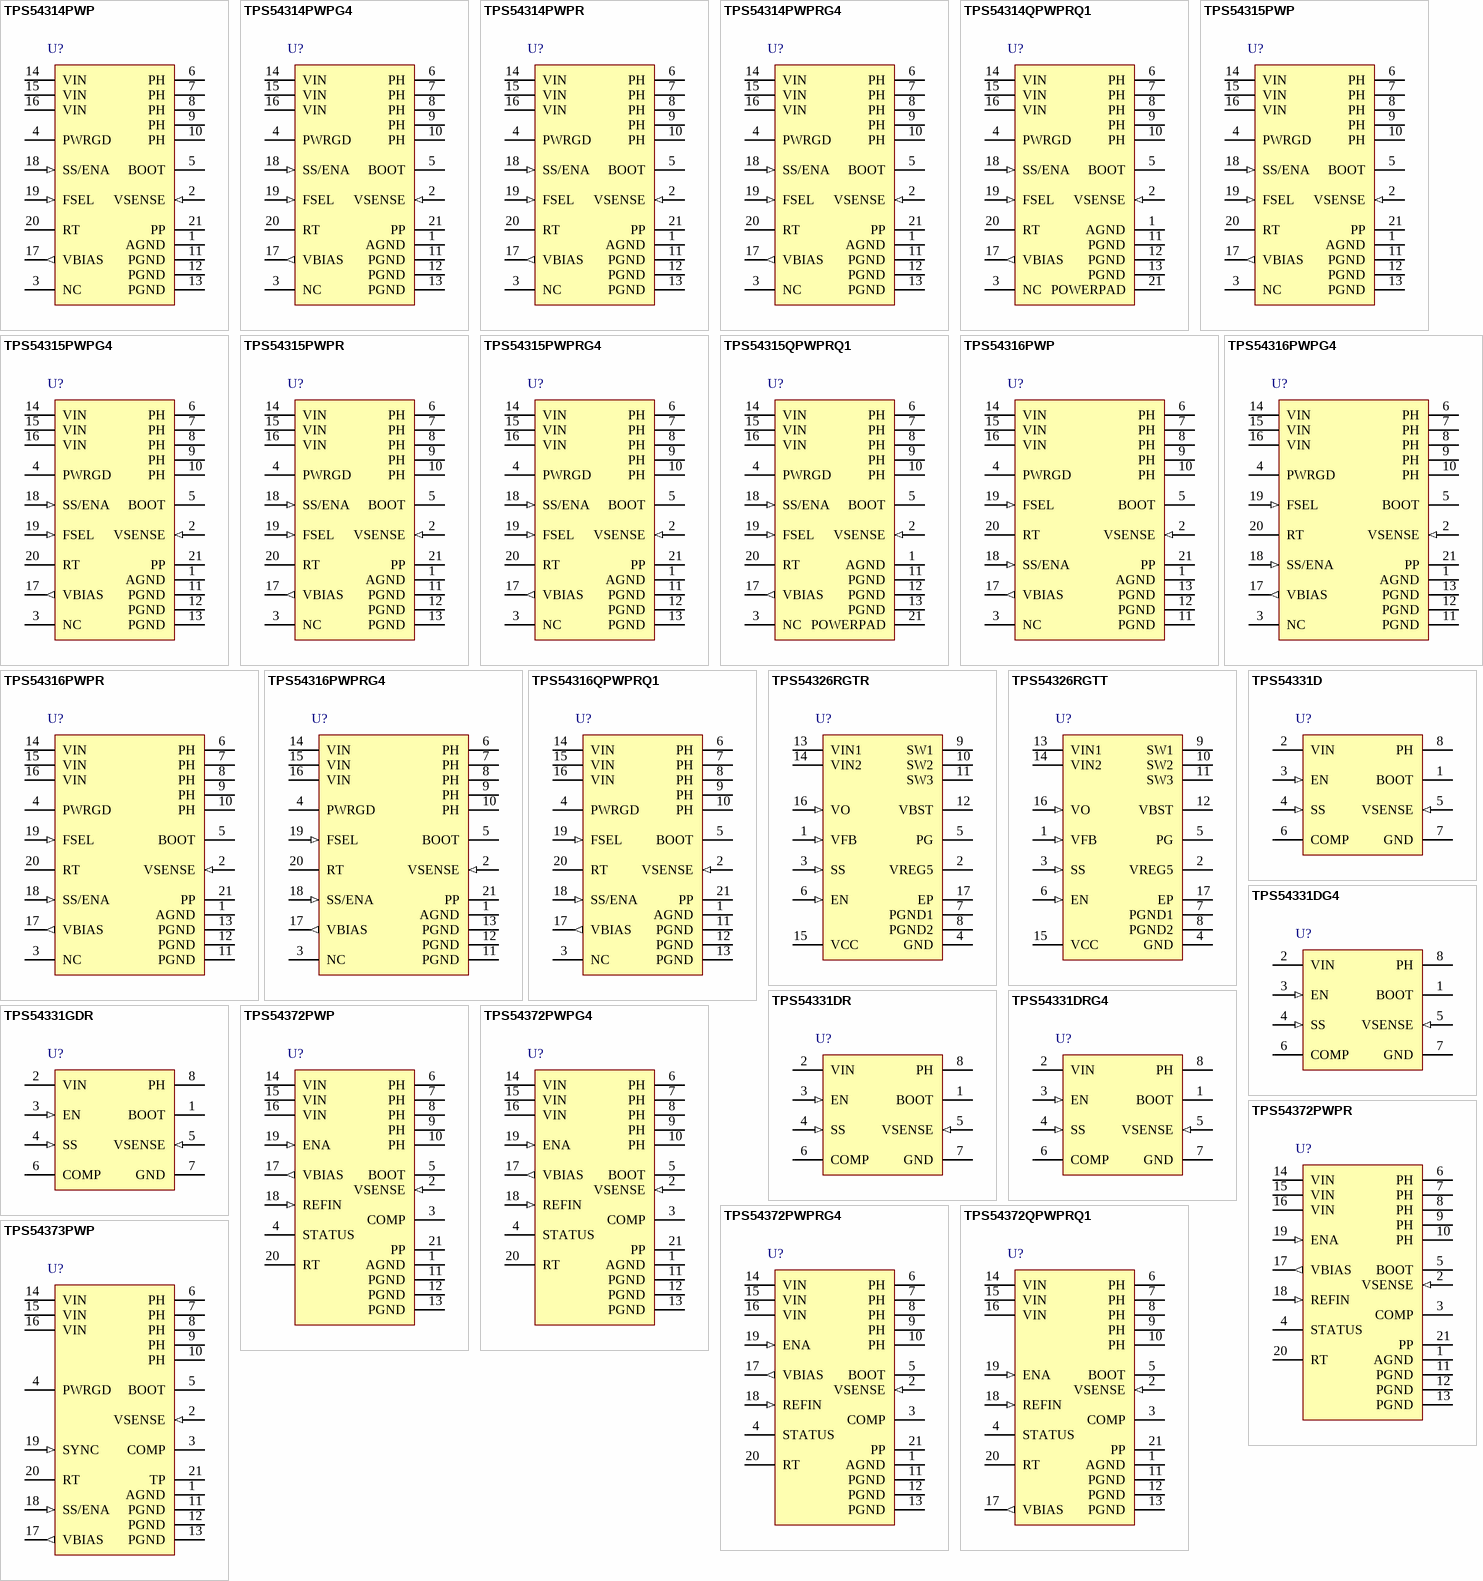
[diagram p5: symbols TPS54314PWP to TPS54373PWP]

## TPS54314PWP
designator U?
Buck Step Down Regulator with 3 to 6 V Input and 1.8 V Output, -40 to 125 degC, 20-Pin HTSSOP (PWP), Green (RoHS & no Sb/Br); PartNumber: TPS54314PWP; Manufacturer: Texas Instruments; Duty Cycle(Max)(%): 90; Iout(Max)(A): 3; Iq(Typ)(mA): 6.2; Preset Vout(V): 1.8; Rating: Catalog; Regulated Outputs(#): 1; SubFamily: Step-Down Regulator; Switch Current Limit(Typ)(A): 4; Synchronous Rectification: TRUE; Vin(Max)(V): 6; DatasheetVersion: SLVS416B; PackageVersion: revI, May-2011; PackageReference: PWP20-3005X2005TP; PackageDescription: 20-Pin PowerPAD Plastic Small Outline 6.5 x 4.4 mm Body ,0.65 mm Pitch, Exposed Pad; Supplier 1: Digi-Key; Supplier Part Number 1: 296-12682-5-ND; Supplier 2: Farnell; Supplier Part Number 2: 1106045; Supplier 3: Newark; Supplier Part Number 3: 74K3978; Supplier 4: Mouser; Supplier Part Number 4: 595-TPS54314PWP; Eco-Plan: Green (RoHS & no Sb/Br); Topology: Buck; Vin(Min)(V): 3; Vout(Max)(V): 1.8; Vout(Min)(V): 1.8; Mounting Technology: Surface Mount; Code_JEDEC: MO-153; ComponentLink1Description: Datasheet; ComponentLink1URL: http://www.ti.com/general/docs/lit/getliterature.tsp?genericPartNumber=TPS54314&fileType=pdf; ComponentLink2Description: URL Link1; ComponentLink2URL: Samples URL:http://www.ti.com/product/tps54314#samples
footprint PWP20-3005X2005TP_N (TSOP, 20-Leads, Body 6.5x4.4mm, Pitch 0.65mm, Thermal Pad 3.7x2.4 mm, IPC Medium Density)
footprint PWP20-3005X2005TP_L (TSOP, 20-Leads, Body 6.5x4.4mm, Pitch 0.65mm, Thermal Pad 3.7x2.4 mm, IPC High Density)
footprint PWP20-3005X2005TP_M (TSOP, 20-Leads, Body 6.5x4.4mm, Pitch 0.65mm, Thermal Pad 3.7x2.4 mm, IPC Low Density)
pins: 1 AGND (power) "Analog ground. Return for compensation network/output divider, slow-start capacitor, VBIAS capacitor, RT resistor and FSEL pin. Make PowerPAD connection to AGND.", 2 VSENSE (in) "Error amplifier inverting input. Connect directly to output voltage sense point.", 3 NC "No connection", 4 PWRGD (hiz) "Power good open drain output. Hi-Z when VSENSE >= 90% Vref , otherwise PWRGD is low. Note that output is low when SS/ENA is low or internal shutdown signal active", 5 BOOT "Bootstrap input. 0.022-uF to 0.1-uF low-ESR capacitor connected from BOOT to PH generates floating drive for the high-side FET driver", 6 PH (power) "Phase input/output. Junction of the internal high and low-side power MOSFETs, and output inductor", 7 PH (power) "Phase input/output. Junction of the internal high and low-side power MOSFETs, and output inductor", 8 PH (power) "Phase input/output. Junction of the internal high and low-side power MOSFETs, and output inductor", 9 PH (power) "Phase input/output. Junction of the internal high and low-side power MOSFETs, and output inductor", 10 PH (power) "Phase input/output. Junction of the internal high and low-side power MOSFETs, and output inductor", 11 PGND (power) "Power ground. High current return for the low-side driver and power MOSFET. Connect PGND with large copper areas to the input and output supply returns, and negative terminals of the input and output capacitors.", 12 PGND (power) "Power ground. High current return for the low-side driver and power MOSFET. Connect PGND with large copper areas to the input and output supply returns, and negative terminals of the input and output capacitors.", 13 PGND (power) "Power ground. High current return for the low-side driver and power MOSFET. Connect PGND with large copper areas to the input and output supply returns, and negative terminals of the input and output capacitors.", 14 VIN (power) "Input supply for the power MOSFET switches and internal bias regulator. Bypass VIN pins to PGND pins close to device package with a high quality, low ESR 1-uF to 10-uF ceramic capacitor.", 15 VIN (power) "Input supply for the power MOSFET switches and internal bias regulator. Bypass VIN pins to PGND pins close to device package with a high quality, low ESR 1-uF to 10-uF ceramic capacitor.", 16 VIN (power) "Input supply for the power MOSFET switches and internal bias regulator. Bypass VIN pins to PGND pins close to device package with a high quality, low ESR 1-uF to 10-uF ceramic capacitor.", 17 VBIAS (out) "Internal bias regulator output. Supplies regulated voltage to internal circuitry. Bypass VBIAS pin to AGND pin with a high quality, low ESR 0.1-uF to 1-uF ceramic capacitor.", 18 SS/ENA (in) "Slow-start/enable input/output. Dual function pin which provides logic input to enable/disable device operation and capacitor input to externally set the start-up time.", 19 FSEL (in) "Frequency select input. Provides logic input to select between two internally set switching frequencies.", 20 RT "Frequency setting resistor input. Connect a resistor from RT to AGND to set the switching frequency, f s .", 21 PP (power) "Exposed Thermal Pad."

## TPS54314PWPG4
designator U?
Buck Step Down Regulator with 3 to 6 V Input and 1.8 V Output, -40 to 125 degC, 20-Pin HTSSOP (PWP), Green (RoHS & no Sb/Br); PartNumber: TPS54314PWPG4; Manufacturer: Texas Instruments; Duty Cycle(Max)(%): 90; Iout(Max)(A): 3; Iq(Typ)(mA): 6.2; Preset Vout(V): 1.8; Rating: Catalog; Regulated Outputs(#): 1; SubFamily: Step-Down Regulator; Switch Current Limit(Typ)(A): 4; Synchronous Rectification: TRUE; Vin(Max)(V): 6; DatasheetVersion: SLVS416B; PackageVersion: revI, May-2011; PackageReference: PWP20-3005X2005TP; PackageDescription: 20-Pin PowerPAD Plastic Small Outline 6.5 x 4.4 mm Body ,0.65 mm Pitch, Exposed Pad; Supplier 1: Digi-Key; Supplier Part Number 1: TPS54314PWPG4-ND; Supplier 2: Newark; Supplier Part Number 2: 66K4526; Supplier 3: Mouser; Supplier Part Number 3: 595-TPS54314PWPG4; Eco-Plan: Green (RoHS & no Sb/Br); Topology: Buck; Vin(Min)(V): 3; Vout(Max)(V): 1.8; Vout(Min)(V): 1.8; Mounting Technology: Surface Mount; Code_JEDEC: MO-153; ComponentLink1Description: Datasheet; ComponentLink1URL: http://www.ti.com/general/docs/lit/getliterature.tsp?genericPartNumber=TPS54314&fileType=pdf; ComponentLink2Description: URL Link1; ComponentLink2URL: Samples URL:http://www.ti.com/product/tps54314#samples
footprint PWP20-3005X2005TP_N (TSOP, 20-Leads, Body 6.5x4.4mm, Pitch 0.65mm, Thermal Pad 3.7x2.4 mm, IPC Medium Density)
footprint PWP20-3005X2005TP_L (TSOP, 20-Leads, Body 6.5x4.4mm, Pitch 0.65mm, Thermal Pad 3.7x2.4 mm, IPC High Density)
footprint PWP20-3005X2005TP_M (TSOP, 20-Leads, Body 6.5x4.4mm, Pitch 0.65mm, Thermal Pad 3.7x2.4 mm, IPC Low Density)
pins: 1 AGND (power) "Analog ground. Return for compensation network/output divider, slow-start capacitor, VBIAS capacitor, RT resistor and FSEL pin. Make PowerPAD connection to AGND.", 2 VSENSE (in) "Error amplifier inverting input. Connect directly to output voltage sense point.", 3 NC "No connection", 4 PWRGD (hiz) "Power good open drain output. Hi-Z when VSENSE >= 90% Vref , otherwise PWRGD is low. Note that output is low when SS/ENA is low or internal shutdown signal active", 5 BOOT "Bootstrap input. 0.022-uF to 0.1-uF low-ESR capacitor connected from BOOT to PH generates floating drive for the high-side FET driver", 6 PH (power) "Phase input/output. Junction of the internal high and low-side power MOSFETs, and output inductor", 7 PH (power) "Phase input/output. Junction of the internal high and low-side power MOSFETs, and output inductor", 8 PH (power) "Phase input/output. Junction of the internal high and low-side power MOSFETs, and output inductor", 9 PH (power) "Phase input/output. Junction of the internal high and low-side power MOSFETs, and output inductor", 10 PH (power) "Phase input/output. Junction of the internal high and low-side power MOSFETs, and output inductor", 11 PGND (power) "Power ground. High current return for the low-side driver and power MOSFET. Connect PGND with large copper areas to the input and output supply returns, and negative terminals of the input and output capacitors.", 12 PGND (power) "Power ground. High current return for the low-side driver and power MOSFET. Connect PGND with large copper areas to the input and output supply returns, and negative terminals of the input and output capacitors.", 13 PGND (power) "Power ground. High current return for the low-side driver and power MOSFET. Connect PGND with large copper areas to the input and output supply returns, and negative terminals of the input and output capacitors.", 14 VIN (power) "Input supply for the power MOSFET switches and internal bias regulator. Bypass VIN pins to PGND pins close to device package with a high quality, low ESR 1-uF to 10-uF ceramic capacitor.", 15 VIN (power) "Input supply for the power MOSFET switches and internal bias regulator. Bypass VIN pins to PGND pins close to device package with a high quality, low ESR 1-uF to 10-uF ceramic capacitor.", 16 VIN (power) "Input supply for the power MOSFET switches and internal bias regulator. Bypass VIN pins to PGND pins close to device package with a high quality, low ESR 1-uF to 10-uF ceramic capacitor.", 17 VBIAS (out) "Internal bias regulator output. Supplies regulated voltage to internal circuitry. Bypass VBIAS pin to AGND pin with a high quality, low ESR 0.1-uF to 1-uF ceramic capacitor.", 18 SS/ENA (in) "Slow-start/enable input/output. Dual function pin which provides logic input to enable/disable device operation and capacitor input to externally set the start-up time.", 19 FSEL (in) "Frequency select input. Provides logic input to select between two internally set switching frequencies.", 20 RT "Frequency setting resistor input. Connect a resistor from RT to AGND to set the switching frequency, f s .", 21 PP (power) "Exposed Thermal Pad."